# Altium schematic symbol library 0.1 uF Capacitor.SchLib: 1 symbol
Pins are listed as number, name and electrical type; pins without a type are passive.

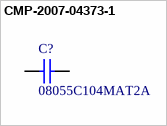
[diagram p0: symbol CMP-2007-04373-1]

## CMP-2007-04373-1
designator C?, comment 08055C104MAT2A
Manufacturer: AVX Interconnect / Elco; Part Number: 08055C104MAT2A
footprint CAPC2013X94X50LL20T25 (Chip Capacitor, 2-Leads, Body 2.01x1.25mm, IPC High Density)
footprint CAPC2013X94X50NL20T25 (Chip Capacitor, 2-Leads, Body 2.01x1.25mm, IPC Medium Density)
footprint CAPC2013X94X50ML20T25 (Chip Capacitor, 2-Leads, Body 2.01x1.25mm, IPC Low Density)
pins: 1, 2
1 alternate drawing of the same symbol